# Altium footprint library Teensy_4.1.PcbLib: 1 footprints
Each footprint in its own frame and in the unit in brackets; x right, y up, seen from the top. Pads: shape width x height; smd on the part's side, far side on the other; paste and mask are expansions set on the pad; w line width, h text height; cw(c..) or ccw(c..) is an arc to the next point about the centre after c.
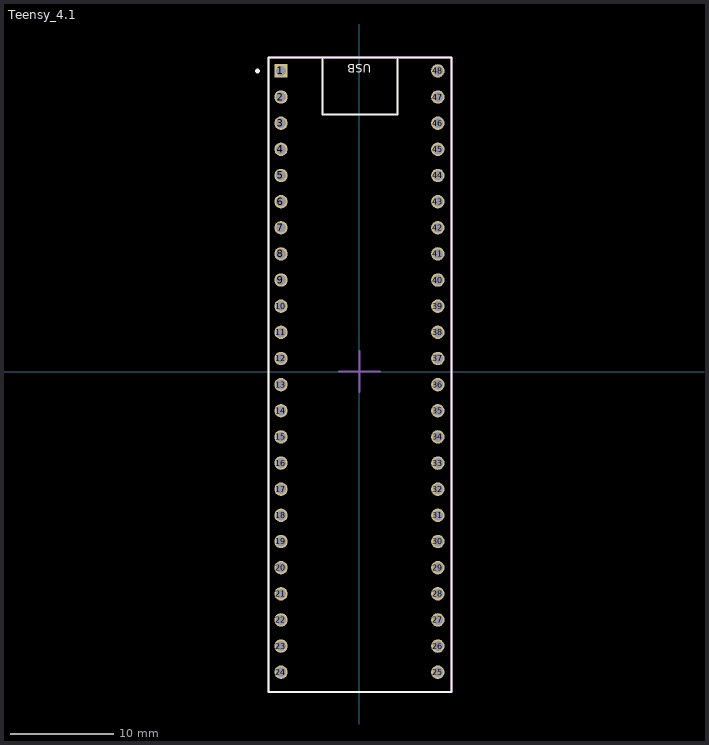
[diagram p0: the footprint, top view; thin cyan lines are the x and y axes]

## Teensy_4.1 [mm]
pads (48):
  rect 1.3x1.3 hole 0.965: 1(-7.62,29.21)
  round 1.3 hole 0.965: 2(-7.62,26.67) 3(-7.62,24.13) 4(-7.62,21.59) 5(-7.62,19.05) 6(-7.62,16.51) 7(-7.62,13.97) 8(-7.62,11.43) 9(-7.62,8.89) 10(-7.62,6.35) 11(-7.62,3.81) 12(-7.62,1.27) 13(-7.62,-1.27) 14(-7.62,-3.81) 15(-7.62,-6.35) 16(-7.62,-8.89) 17(-7.62,-11.43) 18(-7.62,-13.97) 19(-7.62,-16.51) 20(-7.62,-19.05) 21(-7.62,-21.59) 22(-7.62,-24.13) 23(-7.62,-26.67) 24(-7.62,-29.21) 25(7.62,-29.21) 26(7.62,-26.67) 27(7.62,-24.13) 28(7.62,-21.59) 29(7.62,-19.05) 30(7.62,-16.51) 31(7.62,-13.97) 32(7.62,-11.43) 33(7.62,-8.89) 34(7.62,-6.35) 35(7.62,-3.81) 36(7.62,-1.27) 37(7.62,1.27) 38(7.62,3.81) 39(7.62,6.35) 40(7.62,8.89) 41(7.62,11.43) 42(7.62,13.97) 43(7.62,16.51) 44(7.62,19.05) 45(7.62,21.59) 46(7.62,24.13) 47(7.62,26.67) 48(7.62,29.21)
Top Overlay:
  circle w0.254: c-9.9,29.2 r0.1
  lines w0.2: -3.6,30.325 -3.6,24.975 3.7,24.975 3.7,30.325 ; -8.85,-31.15 8.95,-31.15 8.95,30.5 -8.825,30.5 -8.85,30.475 -8.85,-31.15
  text "USB" at 1.175,29.875 h0.8
Mechanical 13:
  lines w0.2: -8.85,-31.15 -8.85,30.5 8.95,30.5 8.95,-31.15 -8.85,-31.15
Mechanical 15:
  lines w0.2: -2,0 0,0 ; 0,-2 0,0 ; 0,2 0,0 ; 2,0 0,0
3D body "Teensy_4.1.STEP": height 15.65, standoff 1.8, extent -8.89,-31.106 8.89,30.555
3D body "1x8 Female Header.stp": height 8.5, standoff -10.46, extent 6.38,10.215 8.92,30.535
3D body "1x8 Female Header.stp": height 8.5, standoff -10.46, extent -8.92,10.215 -6.38,30.535
3D body "1x8 Female Header.stp": height 8.5, standoff -10.46, extent 6.355,-30.245 8.895,-9.925
3D body "1x8 Female Header.stp": height 8.5, standoff -10.46, extent 6.355,-10.02 8.895,10.3
3D body "1x8 Female Header.stp": height 8.5, standoff -10.46, extent -8.92,-10.02 -6.38,10.3
3D body "1x8 Female Header.stp": height 8.5, standoff -10.46, extent -8.92,-30.245 -6.38,-9.925